# Altium schematic symbol library SCH - POWER - LINEAR VREG - TI TPPM0303_D_8.SchLib: 1 symbol
Pins are listed as number, name and electrical type; pins without a type are passive.

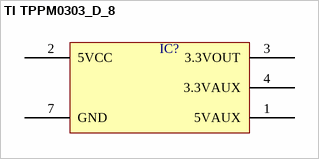
[diagram p0: symbol TI TPPM0303_D_8]

## TI TPPM0303_D_8
designator IC?  (value not drawn)
pins: 1 5VAUX, 2 5VCC, 3 3.3VOUT, 4 3.3VAUX, 7 GND